# Altium schematic symbol library BC847C.SchLib: 1 symbol
Pins are listed as number, name and electrical type; pins without a type are passive.

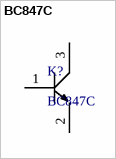
[diagram p0: symbol BC847C]

## BC847C
designator K?
NPN general purpose transistor
footprint SOT90P240X110-3M (SOT23, 3-Leads, Body 2.90x2.40mm, Pitch 0.90mm, IPC Low Density)
pins: 1 Base, 2 Collector, 3 Emitter